# EAGLE library part LM25019SD/NOPB (library rezzonics)
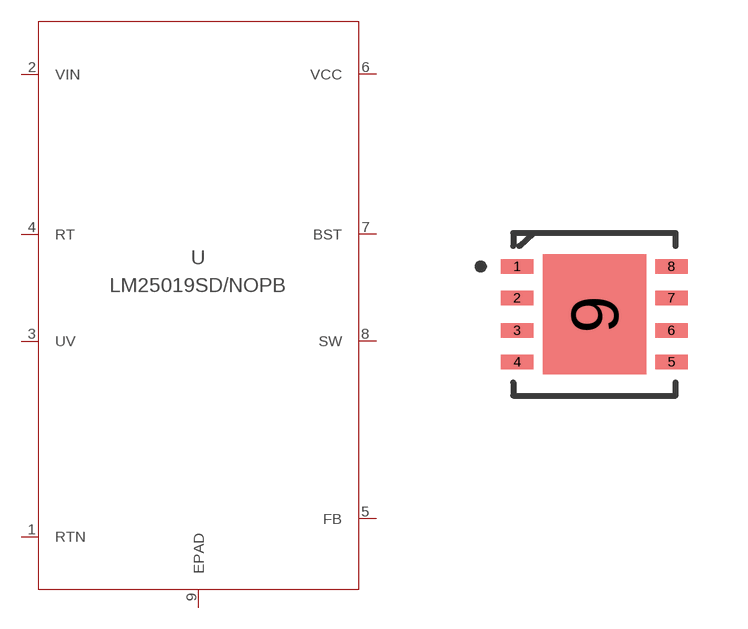
[diagram p2: symbol with the pads of SDC08A; footprint SDC08A]

Designator prefix U

## LM25019SD/NOPB (DATASHEETURL: http://www.ti.com/product/lm25019; FREQUENCY: 1000000.0; IMAX: 0.1; MANUFACTURER_NAME: Texas Instruments; MANUFACTURER_PART_NUMBER: LM25019SD/NOPB; MKTG_PACKAGE: NA; NSID: LM25019SD/NOPB; PACKAGE: NA; VENDOR: Texas Instruments)  [SDC08A]
1  RTN  pas
2  VIN  pas
3  UV  pas
4  RT  pas
5  FB  pas
6  VCC  pas
7  BST  pas
8  SW  pas
9  EPAD  pas

## Footprint SDC08A (pad centres in mm)
smd 0.813 x 0.356: 1 -1.93,1.194; 2 -1.93,0.406; 3 -1.93,-0.406; 4 -1.93,-1.194; 5 1.93,-1.194; 6 1.93,-0.406; 7 1.93,0.406; 8 1.93,1.194
smd 2.591 x 2.997: 9 0,0